# Altium integrated library ModuleInterfaces.IntLib: 2 symbols
Pins are listed as number, name and electrical type; pins without a type are passive.

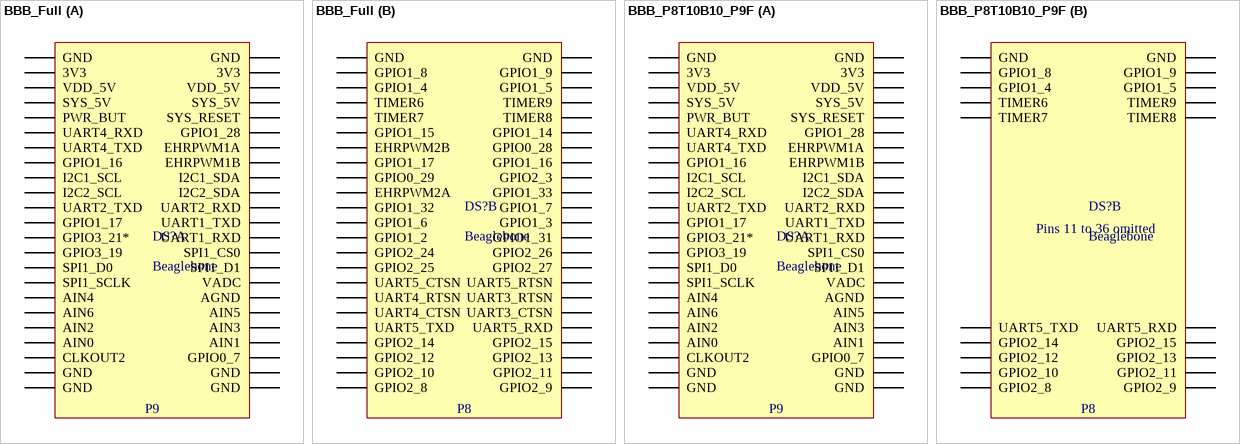
[diagram p0: symbols BBB_Full to BBB_P8T10B10_P9F]

## BBB_Full
designator DS?, comment Beaglebone
Full interface for Beaglebone Black modules
footprint BBB_P8F_P9F (Beaglebone Black Connector with full population for P8 and P9)
part A pins: 901 GND, 902 GND, 903 3V3, 904 3V3, 905 VDD_5V, 906 VDD_5V, 907 SYS_5V, 908 SYS_5V, 909 PWR_BUT, 910 SYS_RESET, 911 UART4_RXD, 912 GPIO1_28, 913 UART4_TXD, 914 EHRPWM1A, 915 GPIO1_16, 916 EHRPWM1B, 917 I2C1_SCL, 918 I2C1_SDA, 919 I2C2_SCL, 920 I2C2_SDA, 921 UART2_TXD, 922 UART2_RXD, 923 GPIO1_17, 924 UART1_TXD, 925 GPIO3_21*, 926 UART1_RXD, 927 GPIO3_19, 928 SPI1_CS0, 929 SPI1_D0, 930 SPI1_D1, 931 SPI1_SCLK, 932 VADC, 933 AIN4, 934 AGND, 935 AIN6, 936 AIN5, 937 AIN2, 938 AIN3, 939 AIN0, 940 AIN1, 941 CLKOUT2, 942 GPIO0_7, 943 GND, 944 GND, 945 GND, 946 GND
part B pins: 801 GND, 802 GND, 803 GPIO1_8, 804 GPIO1_9, 805 GPIO1_4, 806 GPIO1_5, 807 TIMER6, 808 TIMER9, 809 TIMER7, 810 TIMER8, 811 GPIO1_15, 812 GPIO1_14, 813 EHRPWM2B, 814 GPIO0_28, 815 GPIO1_17, 816 GPIO1_16, 817 GPIO0_29, 818 GPIO2_3, 819 EHRPWM2A, 820 GPIO1_33, 821 GPIO1_32, 822 GPIO1_7, 823 GPIO1_6, 824 GPIO1_3, 825 GPIO1_2, 826 GPIO1_31, 827 GPIO2_24, 828 GPIO2_26, 829 GPIO2_25, 830 GPIO2_27, 831 UART5_CTSN, 832 UART5_RTSN, 833 UART4_RTSN, 834 UART3_RTSN, 835 UART4_CTSN, 836 UART3_CTSN, 837 UART5_TXD, 838 UART5_RXD, 839 GPIO2_14, 840 GPIO2_15, 841 GPIO2_12, 842 GPIO2_13, 843 GPIO2_10, 844 GPIO2_11, 845 GPIO2_8, 846 GPIO2_9
part A text: P9
part B text: P8

## BBB_P8T10B10_P9F
designator DS?, comment Beaglebone
Reduced P8 interface for Beaglebone Black modules
footprint BBB_P8T10B10_P9F (Beaglebone Black Connector with full population for P8 and P9)
part A pins: 901 GND, 902 GND, 903 3V3, 904 3V3, 905 VDD_5V, 906 VDD_5V, 907 SYS_5V, 908 SYS_5V, 909 PWR_BUT, 910 SYS_RESET, 911 UART4_RXD, 912 GPIO1_28, 913 UART4_TXD, 914 EHRPWM1A, 915 GPIO1_16, 916 EHRPWM1B, 917 I2C1_SCL, 918 I2C1_SDA, 919 I2C2_SCL, 920 I2C2_SDA, 921 UART2_TXD, 922 UART2_RXD, 923 GPIO1_17, 924 UART1_TXD, 925 GPIO3_21*, 926 UART1_RXD, 927 GPIO3_19, 928 SPI1_CS0, 929 SPI1_D0, 930 SPI1_D1, 931 SPI1_SCLK, 932 VADC, 933 AIN4, 934 AGND, 935 AIN6, 936 AIN5, 937 AIN2, 938 AIN3, 939 AIN0, 940 AIN1, 941 CLKOUT2, 942 GPIO0_7, 943 GND, 944 GND, 945 GND, 946 GND
part B pins: 801 GND, 802 GND, 803 GPIO1_8, 804 GPIO1_9, 805 GPIO1_4, 806 GPIO1_5, 807 TIMER6, 808 TIMER9, 809 TIMER7, 810 TIMER8, 837 UART5_TXD, 838 UART5_RXD, 839 GPIO2_14, 840 GPIO2_15, 841 GPIO2_12, 842 GPIO2_13, 843 GPIO2_10, 844 GPIO2_11, 845 GPIO2_8, 846 GPIO2_9
part A text: P9
part B text: Pins 11 to 36 omitted; P8